# Altium schematic symbol library Schlib1.SchLib: 6 symbols
Pins are listed as number, name and electrical type; pins without a type are passive.

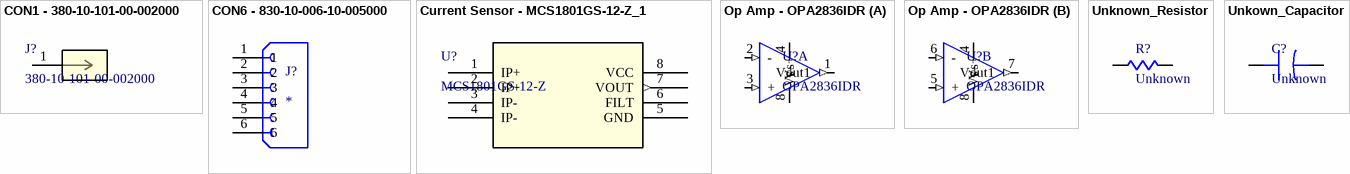
[diagram p0: symbols CON1 - 380-10-101-00-002000 to Unkown_Capacitor]

## CON1 - 380-10-101-00-002000
designator J?, comment 380-10-101-00-002000
No Description Available; Mfr_Name: Mill-Max; Copyright: Copyright (C) 2022 Ultra Librarian. All rights reserved.; Manufacturer_Part_Number: 380-10-101-00-002000; Digi-Key_Part_Number_1: ED10251-ND; RefDes: RefDes; Type: DEV
footprint CON1 - 380-10-101-00-002000_MIM
pins: 1

## CON6 - 830-10-006-10-005000
designator J?
6 Position Header Connector Solder Cup Gold; MF: Mill-Max Manufacturing Corp.; MP: 830-10-006-10-005000; Price: None; Value: *; Check_prices: https://www.snapeda.com/parts/830-10-006-10-005000/Mill-Max%20Manufacturing%20Corp./view-part/6308393/?ref=eda; Package: None; SnapEDA_Link: https://www.snapeda.com/parts/830-10-006-10-005000/Mill-Max%20Manufacturing%20Corp./view-part/6308393/?ref=snap; Purchase-URL: https://pricing.snapeda.com/search/part/830-10-006-10-005000/?ref=eda; Availability: In Stock
footprint CON6 - MILL-MAX_830-10-006-10-005000
pins: 1, 2, 3, 4, 5, 6

## Current Sensor - MCS1801GS-12-Z_1
designator U?, comment MCS1801GS-12-Z
No Description Available; Mfr_Name: Monolithic Power Systems; Copyright: Copyright (C) 2022 Ultra Librarian. All rights reserved.; Manufacturer_Part_Number: MCS1801GS-12-Z; Digi-Key_Part_Number_1: 1589-MCS1801GS-12-ZTR-ND; Digi-Key_Part_Number_2: 1589-MCS1801GS-12-ZCT-ND; Digi-Key_Part_Number_3: 1589-MCS1801GS-12-ZDKR-ND; RefDes: RefDes; Type: DEV
footprint SOIC8 - SOIC127P599X175-8N
pins: 1 IP+, 2 IP+, 3 IP-, 4 IP-, 5 GND, 6 FILT, 7 VOUT (out), 8 VCC (power)

## Op Amp - OPA2836IDR
designator U?, comment OPA2836IDR
Dual, Very Low Power, Rail to Rail out, Negative Rail in, VFB Op Amp 8-SOIC -40 to 125; Manufacturer: Texas Instruments; Unity Gain Bandwidth Product: 118MHz; Common Mode Rejection Ratio: 94dB; Min Dual Supply Voltage: 1.25V; Max Dual Supply Voltage: 2.75V; Voltage Gain: 122dB; -3db Bandwidth: 205MHz; Number of Channels: 2; Slew Rate: 560V/µs; Max I/O Voltage: 400uV; Max Supply Voltage: 5.5V; Min Supply Voltage: 2.5V; Input Offset Voltage (Vos): 65uV; Input Bias Current: 1uA; Operating Supply Current: 1mA; Output Current per Channel: 50mA; Settling Time: 30ns; Supplier 1: Digi-Key; Manufacturer Part Number: OPA2836IDR; RoHS: Yes; Category: Amplifiers - Op Amps, Buffer, Instrumentation; Stock 1: 4615; Pricing 1: 1=4.26000, 10=3.83000, 25=3.62040, 100=3.13770, 250=2.97680, 500=2.67108, 1000=2.42880 (USD); Case/Package: D; Number of Pins: 8; Contact Plating: Gold; Min Operating Temperature: -40°C; Max Operating Temperature: 125°C; Packaging: Tape and Reel; Package Quantity: 2500; Gain Bandwidth Product: 118MHz; Number of Circuits: 2; Number of Elements: 2; Power Supply Rejection Ratio (PSRR): 94dB; Series: OPA2836; Radiation Hardening: No; Lead Free: Lead Free; RoHS Compliant: Yes; ComponentLink1URL: https://datasheet.ciiva.com/14461/opa2836-14461366.pdf?src-supplier=Avnet; ComponentLink1Description: Data Sheet; ComponentLink2URL: https://datasheet.ciiva.com/1815/opa2836-1815388.pdf?src-supplier=Digi-Key; ComponentLink2Description: Data Sheet; Supplier Part Number 1: 296-OPA2836IDRCT-ND
footprint SOIC8 - SOIC127P599X175-8N
part A pins: 1 Vout1 (out), 2 - (in), 3 + (in), 4 Vs- (power), 8 Vs+ (power)
part B pins: 4 Vs- (power), 5 + (in), 6 - (in), 7 Vout1 (out), 8 Vs+ (power)

## Unknown_Resistor
designator R?, comment Unknown
SMD Resistor
footprint R0805
pins: 1, 2

## Unkown_Capacitor
designator C?, comment Unknown
SMD Capacitor
footprint C0805
pins: 1, 2